# Altium footprint library DPAK230P950X250-3L_1.PcbLib: 1 footprints
Each footprint in its own frame and in the unit in brackets; x right, y up, seen from the top. Pads: shape width x height; smd on the part's side, far side on the other; paste and mask are expansions set on the pad; w line width, h text height; cw(c..) or ccw(c..) is an arc to the next point about the centre after c.
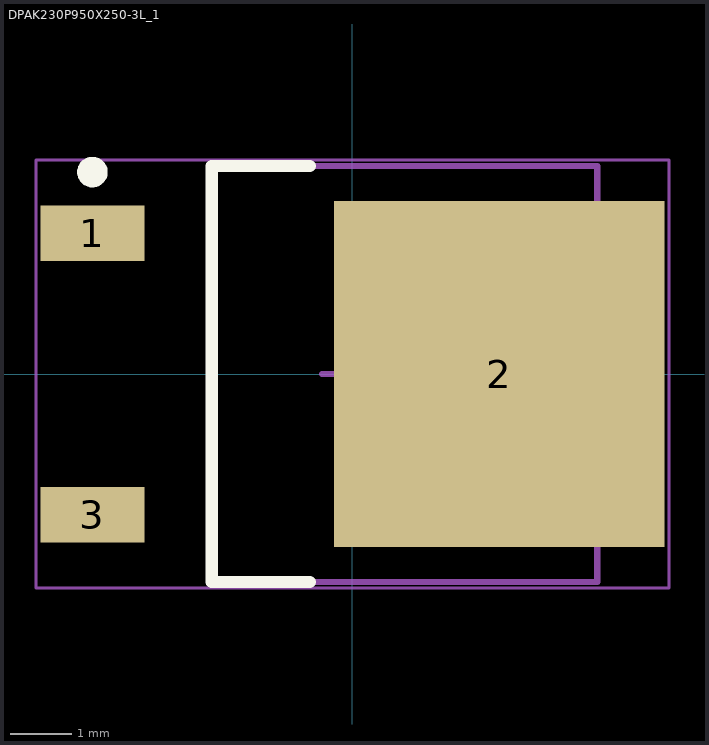
[diagram p0: the footprint, top view; thin cyan lines are the x and y axes]

## DPAK230P950X250-3L_1 [mm] "D-PAK, 3-Pads, Body 6.25x6.76mm (max), IPC High Density"
height 2.5
pads (3):
  rect 1.7x0.9 smd: 1(-4.25,2.3) 3(-4.25,-2.3)
  rect 5.4x5.65 smd: 2(2.4,0)
Top Overlay:
  circle w0.25: c-4.25,3.3 r0.125
  lines w0.2: -0.7,-3.4 -2.3,-3.4 -2.3,3.4 -0.7,3.4
Mechanical 13:
  lines w0.1: -2.3,-3.4 4,-3.4 4,3.4 -2.3,3.4 -2.3,-3.4
Mechanical 15:
  lines w0.05: -5.175,-3.5 5.175,-3.5 5.175,3.5 -5.175,3.5 -5.175,-3.5
  lines w0.1: -0.5,0 0.5,0 ; 0,-0.5 0,0.5
3D body: height 2.3, standoff -0.01, extent -4.85,-3.278 4.85,3.302